# Altium schematic symbol library WPME-FISM.SchLib: 31 symbols
Pins are listed as number, name and electrical type; pins without a type are passive.

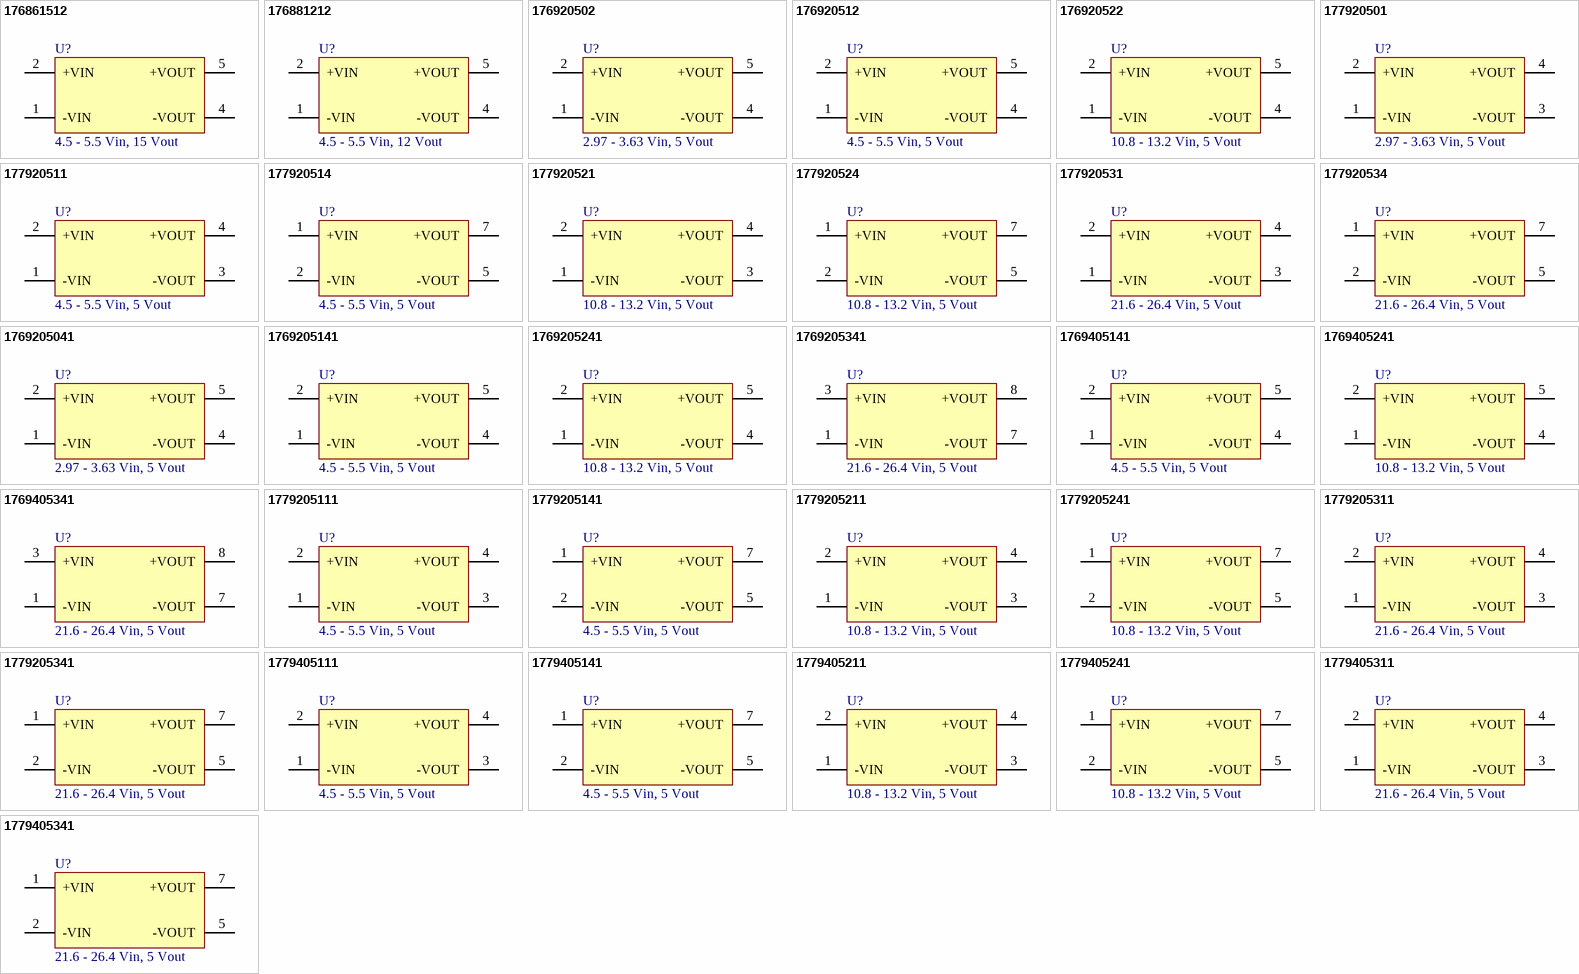
[diagram p0: symbols 176861512 to 1779405341]

## 176861512
designator U?, comment 4.5 - 5.5 Vin, 15 Vout
WPME-FISM Fixed Isolated Module, SMT-8, 4.5 - 5.5 Vin, 15 Vout; Manufacturer Part Number: 176861512; Manufacturer: Wurth Elektronik; Isolation Voltage: 2000 V; Output Power: 1 W; Output Voltage: 15 V; Short Circuit Protection: no; Type of Insulation: Functional; Category: Isolated Converter; Match Code: WPME-FISM; ComponentLink1Description: Website Link; ComponentLink1URL: https://www.we-online.com/redexpert/article/176861512?ad; ComponentLink2Description: Datasheet Link; ComponentLink2URL: https://www.we-online.com/redexpert/spec/176861512?ad; Mount: Surface Mount; Min Operating Temperature: -40 °C; Max Operating Temperature: 100 °C; Packaging: Tape and Reel; Case/Size Code: SMT-8; Length: 12.75 mm; Width: 10.7 mm; Height: 6.7 mm; Input Voltage: 4.5 - 5.5 V
footprint SMT-8_176861512
pins: 1 -VIN, 2 +VIN, 4 -VOUT, 5 +VOUT

## 176881212
designator U?, comment 4.5 - 5.5 Vin, 12 Vout
WPME-FISM Fixed Isolated Module, SMT-8, 4.5 - 5.5 Vin, 12 Vout; Manufacturer Part Number: 176881212; Manufacturer: Wurth Elektronik; Isolation Voltage: 2000 V; Output Power: 1 W; Output Voltage: 12 V; Short Circuit Protection: no; Type of Insulation: Functional; Category: Isolated Converter; Match Code: WPME-FISM; ComponentLink1Description: Website Link; ComponentLink1URL: https://www.we-online.com/redexpert/article/176881212?ad; ComponentLink2Description: Datasheet Link; ComponentLink2URL: https://www.we-online.com/redexpert/spec/176881212?ad; Mount: Surface Mount; Min Operating Temperature: -40 °C; Max Operating Temperature: 100 °C; Packaging: Tape and Reel; Case/Size Code: SMT-8; Length: 12.75 mm; Width: 10.7 mm; Height: 6.7 mm; Input Voltage: 4.5 - 5.5 V
footprint SMT-8_176881212
pins: 1 -VIN, 2 +VIN, 4 -VOUT, 5 +VOUT

## 176920502
designator U?, comment 2.97 - 3.63 Vin, 5 Vout
WPME-FISM Fixed Isolated Module, SMT-8, 2.97 - 3.63 Vin, 5 Vout; Manufacturer Part Number: 176920502; Manufacturer: Wurth Elektronik; Isolation Voltage: 2000 V; Output Power: 1 W; Output Voltage: 5 V; Short Circuit Protection: no; Type of Insulation: Functional; Category: Isolated Converter; Match Code: WPME-FISM; ComponentLink1Description: Website Link; ComponentLink1URL: https://www.we-online.com/redexpert/article/176920502?ad; ComponentLink2Description: Datasheet Link; ComponentLink2URL: https://www.we-online.com/redexpert/spec/176920502?ad; Mount: Surface Mount; Min Operating Temperature: -40 °C; Max Operating Temperature: 100 °C; Packaging: Tape and Reel; Case/Size Code: SMT-8; Length: 12.75 mm; Width: 10.7 mm; Height: 6.7 mm; Input Voltage: 2.97 - 3.63 V
footprint SMT-8_176920502
pins: 1 -VIN, 2 +VIN, 4 -VOUT, 5 +VOUT

## 176920512
designator U?, comment 4.5 - 5.5 Vin, 5 Vout
WPME-FISM Fixed Isolated Module, SMT-8, 4.5 - 5.5 Vin, 5 Vout; Manufacturer Part Number: 176920512; Manufacturer: Wurth Elektronik; Isolation Voltage: 2000 V; Output Power: 1 W; Output Voltage: 5 V; Short Circuit Protection: no; Type of Insulation: Functional; Category: Isolated Converter; Match Code: WPME-FISM; ComponentLink1Description: Website Link; ComponentLink1URL: https://www.we-online.com/redexpert/article/176920512?ad; ComponentLink2Description: Datasheet Link; ComponentLink2URL: https://www.we-online.com/redexpert/spec/176920512?ad; Mount: Surface Mount; Min Operating Temperature: -40 °C; Max Operating Temperature: 100 °C; Packaging: Tape and Reel; Case/Size Code: SMT-8; Length: 12.75 mm; Width: 10.7 mm; Height: 6.7 mm; Input Voltage: 4.5 - 5.5 V
footprint SMT-8_176920512
pins: 1 -VIN, 2 +VIN, 4 -VOUT, 5 +VOUT

## 176920522
designator U?, comment 10.8 - 13.2 Vin, 5 Vout
WPME-FISM Fixed Isolated Module, SMT-8, 10.8 - 13.2 Vin, 5 Vout; Manufacturer Part Number: 176920522; Manufacturer: Wurth Elektronik; Isolation Voltage: 2000 V; Output Power: 1 W; Output Voltage: 5 V; Short Circuit Protection: no; Type of Insulation: Functional; Category: Isolated Converter; Match Code: WPME-FISM; ComponentLink1Description: Website Link; ComponentLink1URL: https://www.we-online.com/redexpert/article/176920522?ad; ComponentLink2Description: Datasheet Link; ComponentLink2URL: https://www.we-online.com/redexpert/spec/176920522?ad; Mount: Surface Mount; Min Operating Temperature: -40 °C; Max Operating Temperature: 100 °C; Packaging: Tape and Reel; Case/Size Code: SMT-8; Length: 12.75 mm; Width: 10.7 mm; Height: 6.7 mm; Input Voltage: 10.8 - 13.2 V
footprint SMT-8_176920522
pins: 1 -VIN, 2 +VIN, 4 -VOUT, 5 +VOUT

## 177920501
designator U?, comment 2.97 - 3.63 Vin, 5 Vout
WPME-FISM Fixed Isolated Module, SIP-4, 2.97 - 3.63 Vin, 5 Vout; Manufacturer Part Number: 177920501; Manufacturer: Wurth Elektronik; Isolation Voltage: 1000 V; Output Power: 1 W; Output Voltage: 5 V; Short Circuit Protection: no; Type of Insulation: Functional; Category: Isolated Converter; Match Code: WPME-FISM; ComponentLink1Description: Website Link; ComponentLink1URL: https://www.we-online.com/redexpert/article/177920501?ad; ComponentLink2Description: Datasheet Link; ComponentLink2URL: https://www.we-online.com/redexpert/spec/177920501?ad; Mount: Through Hole; Min Operating Temperature: -40 °C; Max Operating Temperature: 85 °C; Packaging: Tube; Case/Size Code: SIP-4; Length: 11.5 mm; Width: 6 mm; Height: 10 mm; Input Voltage: 2.97 - 3.63 V
footprint SIP-4_177920501
pins: 1 -VIN, 2 +VIN, 3 -VOUT, 4 +VOUT

## 177920511
designator U?, comment 4.5 - 5.5 Vin, 5 Vout
WPME-FISM Fixed Isolated Module, SIP-4, 4.5 - 5.5 Vin, 5 Vout; Manufacturer Part Number: 177920511; Manufacturer: Wurth Elektronik; Isolation Voltage: 1000 V; Output Power: 1 W; Output Voltage: 5 V; Short Circuit Protection: no; Type of Insulation: Functional; Category: Isolated Converter; Match Code: WPME-FISM; ComponentLink1Description: Website Link; ComponentLink1URL: https://www.we-online.com/redexpert/article/177920511?ad; ComponentLink2Description: Datasheet Link; ComponentLink2URL: https://www.we-online.com/redexpert/spec/177920511?ad; Mount: Through Hole; Min Operating Temperature: -40 °C; Max Operating Temperature: 85 °C; Packaging: Tube; Case/Size Code: SIP-4; Length: 11.5 mm; Width: 6 mm; Height: 10 mm; Input Voltage: 4.5 - 5.5 V
footprint SIP-4_177920511
pins: 1 -VIN, 2 +VIN, 3 -VOUT, 4 +VOUT

## 177920514
designator U?, comment 4.5 - 5.5 Vin, 5 Vout
WPME-FISM Fixed Isolated Module, SIP-7, 4.5 - 5.5 Vin, 5 Vout; Manufacturer Part Number: 177920514; Manufacturer: Wurth Elektronik; Isolation Voltage: 4000 V; Output Power: 1 W; Output Voltage: 5 V; Short Circuit Protection: no; Type of Insulation: Functional; Category: Isolated Converter; Match Code: WPME-FISM; ComponentLink1Description: Website Link; ComponentLink1URL: https://www.we-online.com/redexpert/article/177920514?ad; ComponentLink2Description: Datasheet Link; ComponentLink2URL: https://www.we-online.com/redexpert/spec/177920514?ad; Mount: Through Hole; Min Operating Temperature: -40 °C; Max Operating Temperature: 85 °C; Packaging: Tube; Case/Size Code: SIP-7; Length: 19.6 mm; Width: 7.05 mm; Height: 10.2 mm; Input Voltage: 4.5 - 5.5 V
footprint SIP-7_177920514
pins: 1 +VIN, 2 -VIN, 5 -VOUT, 7 +VOUT

## 177920521
designator U?, comment 10.8 - 13.2 Vin, 5 Vout
WPME-FISM Fixed Isolated Module, SIP-4, 10.8 - 13.2 Vin, 5 Vout; Manufacturer Part Number: 177920521; Manufacturer: Wurth Elektronik; Isolation Voltage: 1000 V; Output Power: 1 W; Output Voltage: 5 V; Short Circuit Protection: no; Type of Insulation: Functional; Category: Isolated Converter; Match Code: WPME-FISM; ComponentLink1Description: Website Link; ComponentLink1URL: https://www.we-online.com/redexpert/article/177920521?ad; ComponentLink2Description: Datasheet Link; ComponentLink2URL: https://www.we-online.com/redexpert/spec/177920521?ad; Mount: Through Hole; Min Operating Temperature: -40 °C; Max Operating Temperature: 85 °C; Packaging: Tube; Case/Size Code: SIP-4; Length: 11.5 mm; Width: 6 mm; Height: 10 mm; Input Voltage: 10.8 - 13.2 V
footprint SIP-4_177920521
pins: 1 -VIN, 2 +VIN, 3 -VOUT, 4 +VOUT

## 177920524
designator U?, comment 10.8 - 13.2 Vin, 5 Vout
WPME-FISM Fixed Isolated Module, SIP-7, 10.8 - 13.2 Vin, 5 Vout; Manufacturer Part Number: 177920524; Manufacturer: Wurth Elektronik; Isolation Voltage: 4000 V; Output Power: 1 W; Output Voltage: 5 V; Short Circuit Protection: no; Type of Insulation: Functional; Category: Isolated Converter; Match Code: WPME-FISM; ComponentLink1Description: Website Link; ComponentLink1URL: https://www.we-online.com/redexpert/article/177920524?ad; ComponentLink2Description: Datasheet Link; ComponentLink2URL: https://www.we-online.com/redexpert/spec/177920524?ad; Mount: Through Hole; Min Operating Temperature: -40 °C; Max Operating Temperature: 85 °C; Packaging: Tube; Case/Size Code: SIP-7; Length: 19.6 mm; Width: 7.05 mm; Height: 10.2 mm; Input Voltage: 10.8 - 13.2 V
footprint SIP-7_177920524
pins: 1 +VIN, 2 -VIN, 5 -VOUT, 7 +VOUT

## 177920531
designator U?, comment 21.6 - 26.4 Vin, 5 Vout
WPME-FISM Fixed Isolated Module, SIP-4, 21.6 - 26.4 Vin, 5 Vout; Manufacturer Part Number: 177920531; Manufacturer: Wurth Elektronik; Isolation Voltage: 1000 V; Output Power: 1 W; Output Voltage: 5 V; Short Circuit Protection: no; Type of Insulation: Functional; Category: Isolated Converter; Match Code: WPME-FISM; ComponentLink1Description: Website Link; ComponentLink1URL: https://www.we-online.com/redexpert/article/177920531?ad; ComponentLink2Description: Datasheet Link; ComponentLink2URL: https://www.we-online.com/redexpert/spec/177920531?ad; Mount: Through Hole; Min Operating Temperature: -40 °C; Max Operating Temperature: 85 °C; Packaging: Tube; Case/Size Code: SIP-4; Length: 11.5 mm; Width: 6 mm; Height: 10 mm; Input Voltage: 21.6 - 26.4 V
footprint SIP-4_177920531
pins: 1 -VIN, 2 +VIN, 3 -VOUT, 4 +VOUT

## 177920534
designator U?, comment 21.6 - 26.4 Vin, 5 Vout
WPME-FISM Fixed Isolated Module, SIP-7, 21.6 - 26.4 Vin, 5 Vout; Manufacturer Part Number: 177920534; Manufacturer: Wurth Elektronik; Isolation Voltage: 4000 V; Output Power: 1 W; Output Voltage: 5 V; Short Circuit Protection: no; Type of Insulation: Functional; Category: Isolated Converter; Match Code: WPME-FISM; ComponentLink1Description: Website Link; ComponentLink1URL: https://www.we-online.com/redexpert/article/177920534?ad; ComponentLink2Description: Datasheet Link; ComponentLink2URL: https://www.we-online.com/redexpert/spec/177920534?ad; Mount: Through Hole; Min Operating Temperature: -40 °C; Max Operating Temperature: 85 °C; Packaging: Tube; Case/Size Code: SIP-7; Length: 19.6 mm; Width: 7.05 mm; Height: 10.2 mm; Input Voltage: 21.6 - 26.4 V
footprint SIP-7_177920534
pins: 1 +VIN, 2 -VIN, 5 -VOUT, 7 +VOUT

## 1769205041
designator U?, comment 2.97 - 3.63 Vin, 5 Vout
WPME-FISM Fixed Isolated Module, SMT-8, 2.97 - 3.63 Vin, 5 Vout; Manufacturer Part Number: 1769205041; Manufacturer: Wurth Elektronik; Isolation Voltage: 4000 V; Output Power: 1 W; Output Voltage: 5 V; Short Circuit Protection: continuous; Type of Insulation: Functional; Category: Isolated Converter; Match Code: WPME-FISM; ComponentLink1Description: Website Link; ComponentLink1URL: https://www.we-online.com/redexpert/article/1769205041?ad; ComponentLink2Description: Datasheet Link; ComponentLink2URL: https://www.we-online.com/redexpert/spec/1769205041?ad; Mount: Surface Mount; Min Operating Temperature: -40 °C; Max Operating Temperature: 105 °C; Packaging: Tape and Reel; Case/Size Code: SMT-8; Length: 13.2 mm; Width: 11.4 mm; Height: 7.25 mm; Input Voltage: 2.97 - 3.63 V
footprint SMT-8_1769205041
pins: 1 -VIN, 2 +VIN, 4 -VOUT, 5 +VOUT

## 1769205141
designator U?, comment 4.5 - 5.5 Vin, 5 Vout
WPME-FISM Fixed Isolated Module, SMT-8, 4.5 - 5.5 Vin, 5 Vout; Manufacturer Part Number: 1769205141; Manufacturer: Wurth Elektronik; Isolation Voltage: 4000 V; Output Power: 1 W; Output Voltage: 5 V; Short Circuit Protection: continuous; Type of Insulation: Functional; Category: Isolated Converter; Match Code: WPME-FISM; ComponentLink1Description: Website Link; ComponentLink1URL: https://www.we-online.com/redexpert/article/1769205141?ad; ComponentLink2Description: Datasheet Link; ComponentLink2URL: https://www.we-online.com/redexpert/spec/1769205141?ad; Mount: Surface Mount; Min Operating Temperature: -40 °C; Max Operating Temperature: 105 °C; Packaging: Tape and Reel; Case/Size Code: SMT-8; Length: 13.2 mm; Width: 11.4 mm; Height: 7.25 mm; Input Voltage: 4.5 - 5.5 V
footprint SMT-8_1769205141
pins: 1 -VIN, 2 +VIN, 4 -VOUT, 5 +VOUT

## 1769205241
designator U?, comment 10.8 - 13.2 Vin, 5 Vout
WPME-FISM Fixed Isolated Module, SMT-8, 10.8 - 13.2 Vin, 5 Vout; Manufacturer Part Number: 1769205241; Manufacturer: Wurth Elektronik; Isolation Voltage: 3000 V; Output Power: 1 W; Output Voltage: 5 V; Short Circuit Protection: continuous; Type of Insulation: Functional; Category: Isolated Converter; Match Code: WPME-FISM; ComponentLink1Description: Website Link; ComponentLink1URL: https://www.we-online.com/redexpert/article/1769205241?ad; ComponentLink2Description: Datasheet Link; ComponentLink2URL: https://www.we-online.com/redexpert/spec/1769205241?ad; Mount: Surface Mount; Min Operating Temperature: -40 °C; Max Operating Temperature: 105 °C; Packaging: Tape and Reel; Case/Size Code: SMT-8; Length: 13.2 mm; Width: 11.4 mm; Height: 7.25 mm; Input Voltage: 10.8 - 13.2 V
footprint SMT-8_1769205241
pins: 1 -VIN, 2 +VIN, 4 -VOUT, 5 +VOUT

## 1769205341
designator U?, comment 21.6 - 26.4 Vin, 5 Vout
WPME-FISM Fixed Isolated Module, SMT-8, 21.6 - 26.4 Vin, 5 Vout; Manufacturer Part Number: 1769205341; Manufacturer: Wurth Elektronik; Isolation Voltage: 3000 V; Output Power: 1 W; Output Voltage: 5 V; Short Circuit Protection: continuous; Type of Insulation: Functional; Category: Isolated Converter; Match Code: WPME-FISM; ComponentLink1Description: Website Link; ComponentLink1URL: https://www.we-online.com/redexpert/article/1769205341?ad; ComponentLink2Description: Datasheet Link; ComponentLink2URL: https://www.we-online.com/redexpert/spec/1769205341?ad; Mount: Surface Mount; Min Operating Temperature: -40 °C; Max Operating Temperature: 105 °C; Packaging: Tape and Reel; Case/Size Code: SMT-8; Length: 13.2 mm; Width: 11.4 mm; Height: 7.25 mm; Input Voltage: 21.6 - 26.4 V
footprint SMT-8_1769205341
pins: 1 -VIN, 3 +VIN, 7 -VOUT, 8 +VOUT

## 1769405141
designator U?, comment 4.5 - 5.5 Vin, 5 Vout
WPME-FISM Fixed Isolated Module, SMT-8, 4.5 - 5.5 Vin, 5 Vout; Manufacturer Part Number: 1769405141; Manufacturer: Wurth Elektronik; Isolation Voltage: 4000 V; Output Power: 2 W; Output Voltage: 5 V; Short Circuit Protection: continuous; Type of Insulation: Functional; Category: Isolated Converter; Match Code: WPME-FISM; ComponentLink1Description: Website Link; ComponentLink1URL: https://www.we-online.com/redexpert/article/1769405141?ad; ComponentLink2Description: Datasheet Link; ComponentLink2URL: https://www.we-online.com/redexpert/spec/1769405141?ad; Mount: Surface Mount; Min Operating Temperature: -40 °C; Max Operating Temperature: 105 °C; Packaging: Tape and Reel; Case/Size Code: SMT-8; Length: 13.2 mm; Width: 11.4 mm; Height: 7.25 mm; Input Voltage: 4.5 - 5.5 V
footprint SMT-8_1769405141
pins: 1 -VIN, 2 +VIN, 4 -VOUT, 5 +VOUT

## 1769405241
designator U?, comment 10.8 - 13.2 Vin, 5 Vout
WPME-FISM Fixed Isolated Module, SMT-8, 10.8 - 13.2 Vin, 5 Vout; Manufacturer Part Number: 1769405241; Manufacturer: Wurth Elektronik; Isolation Voltage: 3000 V; Output Power: 2 W; Output Voltage: 5 V; Short Circuit Protection: continuous; Type of Insulation: Functional; Category: Isolated Converter; Match Code: WPME-FISM; ComponentLink1Description: Website Link; ComponentLink1URL: https://www.we-online.com/redexpert/article/1769405241?ad; ComponentLink2Description: Datasheet Link; ComponentLink2URL: https://www.we-online.com/redexpert/spec/1769405241?ad; Mount: Surface Mount; Min Operating Temperature: -40 °C; Max Operating Temperature: 105 °C; Packaging: Tape and Reel; Case/Size Code: SMT-8; Length: 13.2 mm; Width: 11.4 mm; Height: 7.25 mm; Input Voltage: 10.8 - 13.2 V
footprint SMT-8_1769405241
pins: 1 -VIN, 2 +VIN, 4 -VOUT, 5 +VOUT

## 1769405341
designator U?, comment 21.6 - 26.4 Vin, 5 Vout
WPME-FISM Fixed Isolated Module, SMT-8, 21.6 - 26.4 Vin, 5 Vout; Manufacturer Part Number: 1769405341; Manufacturer: Wurth Elektronik; Isolation Voltage: 3000 V; Output Power: 2 W; Output Voltage: 5 V; Short Circuit Protection: continuous; Type of Insulation: Functional; Category: Isolated Converter; Match Code: WPME-FISM; ComponentLink1Description: Website Link; ComponentLink1URL: https://www.we-online.com/redexpert/article/1769405341?ad; ComponentLink2Description: Datasheet Link; ComponentLink2URL: https://www.we-online.com/redexpert/spec/1769405341?ad; Mount: Surface Mount; Min Operating Temperature: -40 °C; Max Operating Temperature: 105 °C; Packaging: Tape and Reel; Case/Size Code: SMT-8; Length: 13.2 mm; Width: 11.4 mm; Height: 7.25 mm; Input Voltage: 21.6 - 26.4 V
footprint SMT-8_1769405341
pins: 1 -VIN, 3 +VIN, 7 -VOUT, 8 +VOUT

## 1779205111
designator U?, comment 4.5 - 5.5 Vin, 5 Vout
WPME-FISM Fixed Isolated Module, SIP-4, 4.5 - 5.5 Vin, 5 Vout; Manufacturer Part Number: 1779205111; Manufacturer: Wurth Elektronik; Isolation Voltage: 3000 V; Output Power: 1 W; Output Voltage: 5 V; Short Circuit Protection: continuous; Type of Insulation: Functional; Category: Isolated Converter; Match Code: WPME-FISM; ComponentLink1Description: Website Link; ComponentLink1URL: https://www.we-online.com/redexpert/article/1779205111?ad; ComponentLink2Description: Datasheet Link; ComponentLink2URL: https://www.we-online.com/redexpert/spec/1779205111?ad; Mount: Through Hole; Min Operating Temperature: -40 °C; Max Operating Temperature: 105 °C; Packaging: Tube; Case/Size Code: SIP-4; Length: 11.5 mm; Width: 6 mm; Height: 10 mm; Input Voltage: 4.5 - 5.5 V
footprint SIP-4_1779205111
pins: 1 -VIN, 2 +VIN, 3 -VOUT, 4 +VOUT

## 1779205141
designator U?, comment 4.5 - 5.5 Vin, 5 Vout
WPME-FISM Fixed Isolated Module, SIP-7, 4.5 - 5.5 Vin, 5 Vout; Manufacturer Part Number: 1779205141; Manufacturer: Wurth Elektronik; Isolation Voltage: 3000 V; Output Power: 1 W; Output Voltage: 5 V; Short Circuit Protection: continuous; Type of Insulation: Functional; Category: Isolated Converter; Match Code: WPME-FISM; ComponentLink1Description: Website Link; ComponentLink1URL: https://www.we-online.com/redexpert/article/1779205141?ad; ComponentLink2Description: Datasheet Link; ComponentLink2URL: https://www.we-online.com/redexpert/spec/1779205141?ad; Mount: Through Hole; Min Operating Temperature: -40 °C; Max Operating Temperature: 105 °C; Packaging: Tube; Case/Size Code: SIP-7; Length: 19.65 mm; Width: 6 mm; Height: 10.16 mm; Input Voltage: 4.5 - 5.5 V
footprint SIP-7_1779205141
pins: 1 +VIN, 2 -VIN, 5 -VOUT, 7 +VOUT

## 1779205211
designator U?, comment 10.8 - 13.2 Vin, 5 Vout
WPME-FISM Fixed Isolated Module, SIP-4, 10.8 - 13.2 Vin, 5 Vout; Manufacturer Part Number: 1779205211; Manufacturer: Wurth Elektronik; Isolation Voltage: 1500 V; Output Power: 1 W; Output Voltage: 5 V; Short Circuit Protection: continuous; Type of Insulation: Functional; Category: Isolated Converter; Match Code: WPME-FISM; ComponentLink1Description: Website Link; ComponentLink1URL: https://www.we-online.com/redexpert/article/1779205211?ad; ComponentLink2Description: Datasheet Link; ComponentLink2URL: https://www.we-online.com/redexpert/spec/1779205211?ad; Mount: Through Hole; Min Operating Temperature: -40 °C; Max Operating Temperature: 105 °C; Packaging: Tube; Case/Size Code: SIP-4; Length: 11.5 mm; Width: 6 mm; Height: 10 mm; Input Voltage: 10.8 - 13.2 V
footprint SIP-4_1779205211
pins: 1 -VIN, 2 +VIN, 3 -VOUT, 4 +VOUT

## 1779205241
designator U?, comment 10.8 - 13.2 Vin, 5 Vout
WPME-FISM Fixed Isolated Module, SIP-7, 10.8 - 13.2 Vin, 5 Vout; Manufacturer Part Number: 1779205241; Manufacturer: Wurth Elektronik; Isolation Voltage: 4000 V; Output Power: 1 W; Output Voltage: 5 V; Short Circuit Protection: continuous; Type of Insulation: Functional; Category: Isolated Converter; Match Code: WPME-FISM; ComponentLink1Description: Website Link; ComponentLink1URL: https://www.we-online.com/redexpert/article/1779205241?ad; ComponentLink2Description: Datasheet Link; ComponentLink2URL: https://www.we-online.com/redexpert/spec/1779205241?ad; Mount: Through Hole; Min Operating Temperature: -40 °C; Max Operating Temperature: 105 °C; Packaging: Tube; Case/Size Code: SIP-7; Length: 19.65 mm; Width: 6 mm; Height: 10.16 mm; Input Voltage: 10.8 - 13.2 V
footprint SIP-7_1779205241
pins: 1 +VIN, 2 -VIN, 5 -VOUT, 7 +VOUT

## 1779205311
designator U?, comment 21.6 - 26.4 Vin, 5 Vout
WPME-FISM Fixed Isolated Module, SIP-4, 21.6 - 26.4 Vin, 5 Vout; Manufacturer Part Number: 1779205311; Manufacturer: Wurth Elektronik; Isolation Voltage: 3000 V; Output Power: 1 W; Output Voltage: 5 V; Short Circuit Protection: continuous; Type of Insulation: Functional; Category: Isolated Converter; Match Code: WPME-FISM; ComponentLink1Description: Website Link; ComponentLink1URL: https://www.we-online.com/redexpert/article/1779205311?ad; ComponentLink2Description: Datasheet Link; ComponentLink2URL: https://www.we-online.com/redexpert/spec/1779205311?ad; Mount: Through Hole; Min Operating Temperature: -40 °C; Max Operating Temperature: 105 °C; Packaging: Tube; Case/Size Code: SIP-4; Length: 11.6 mm; Width: 6 mm; Height: 10.16 mm; Input Voltage: 21.6 - 26.4 V
footprint SIP-4_1779205311
pins: 1 -VIN, 2 +VIN, 3 -VOUT, 4 +VOUT

## 1779205341
designator U?, comment 21.6 - 26.4 Vin, 5 Vout
WPME-FISM Fixed Isolated Module, SIP-7, 21.6 - 26.4 Vin, 5 Vout; Manufacturer Part Number: 1779205341; Manufacturer: Wurth Elektronik; Isolation Voltage: 3000 V; Output Power: 1 W; Output Voltage: 5 V; Short Circuit Protection: continuous; Type of Insulation: Functional; Category: Isolated Converter; Match Code: WPME-FISM; ComponentLink1Description: Website Link; ComponentLink1URL: https://www.we-online.com/redexpert/article/1779205341?ad; ComponentLink2Description: Datasheet Link; ComponentLink2URL: https://www.we-online.com/redexpert/spec/1779205341?ad; Mount: Through Hole; Min Operating Temperature: -40 °C; Max Operating Temperature: 105 °C; Packaging: Tube; Case/Size Code: SIP-7; Length: 19.65 mm; Width: 6 mm; Height: 10.16 mm; Input Voltage: 21.6 - 26.4 V
footprint SIP-7_1779205341
pins: 1 +VIN, 2 -VIN, 5 -VOUT, 7 +VOUT

## 1779405111
designator U?, comment 4.5 - 5.5 Vin, 5 Vout
WPME-FISM Fixed Isolated Module, SIP-4, 4.5 - 5.5 Vin, 5 Vout; Manufacturer Part Number: 1779405111; Manufacturer: Wurth Elektronik; Isolation Voltage: 1500 V; Output Power: 2 W; Output Voltage: 5 V; Short Circuit Protection: continuous; Type of Insulation: Functional; Category: Isolated Converter; Match Code: WPME-FISM; ComponentLink1Description: Website Link; ComponentLink1URL: https://www.we-online.com/redexpert/article/1779405111?ad; ComponentLink2Description: Datasheet Link; ComponentLink2URL: https://www.we-online.com/redexpert/spec/1779405111?ad; Mount: Through Hole; Min Operating Temperature: -40 °C; Max Operating Temperature: 85 °C; Packaging: Tube; Case/Size Code: SIP-4; Length: 11.6 mm; Width: 7.55 mm; Height: 10.16 mm; Input Voltage: 4.5 - 5.5 V
footprint SIP-4_1779405111
pins: 1 -VIN, 2 +VIN, 3 -VOUT, 4 +VOUT

## 1779405141
designator U?, comment 4.5 - 5.5 Vin, 5 Vout
WPME-FISM Fixed Isolated Module, SIP-7, 4.5 - 5.5 Vin, 5 Vout; Manufacturer Part Number: 1779405141; Manufacturer: Wurth Elektronik; Isolation Voltage: 3000 V; Output Power: 2 W; Output Voltage: 5 V; Short Circuit Protection: continuous; Type of Insulation: Functional; Category: Isolated Converter; Match Code: WPME-FISM; ComponentLink1Description: Website Link; ComponentLink1URL: https://www.we-online.com/redexpert/article/1779405141?ad; ComponentLink2Description: Datasheet Link; ComponentLink2URL: https://www.we-online.com/redexpert/spec/1779405141?ad; Mount: Through Hole; Min Operating Temperature: -40 °C; Max Operating Temperature: 105 °C; Packaging: Tube; Case/Size Code: SIP-7; Length: 19.65 mm; Width: 7.05 mm; Height: 10.16 mm; Input Voltage: 4.5 - 5.5 V
footprint SIP-7_1779405141
pins: 1 +VIN, 2 -VIN, 5 -VOUT, 7 +VOUT

## 1779405211
designator U?, comment 10.8 - 13.2 Vin, 5 Vout
WPME-FISM Fixed Isolated Module, SIP-4, 10.8 - 13.2 Vin, 5 Vout; Manufacturer Part Number: 1779405211; Manufacturer: Wurth Elektronik; Isolation Voltage: 1500 V; Output Power: 2 W; Output Voltage: 5 V; Short Circuit Protection: continuous; Type of Insulation: Functional; Category: Isolated Converter; Match Code: WPME-FISM; ComponentLink1Description: Website Link; ComponentLink1URL: https://www.we-online.com/redexpert/article/1779405211?ad; ComponentLink2Description: Datasheet Link; ComponentLink2URL: https://www.we-online.com/redexpert/spec/1779405211?ad; Mount: Through Hole; Min Operating Temperature: -40 °C; Max Operating Temperature: 85 °C; Packaging: Tube; Case/Size Code: SIP-4; Length: 11.6 mm; Width: 7.55 mm; Height: 10.16 mm; Input Voltage: 10.8 - 13.2 V
footprint SIP-4_1779405211
pins: 1 -VIN, 2 +VIN, 3 -VOUT, 4 +VOUT

## 1779405241
designator U?, comment 10.8 - 13.2 Vin, 5 Vout
WPME-FISM Fixed Isolated Module, SIP-7, 10.8 - 13.2 Vin, 5 Vout; Manufacturer Part Number: 1779405241; Manufacturer: Wurth Elektronik; Isolation Voltage: 3000 V; Output Power: 2 W; Output Voltage: 5 V; Short Circuit Protection: continuous; Type of Insulation: Functional; Category: Isolated Converter; Match Code: WPME-FISM; ComponentLink1Description: Website Link; ComponentLink1URL: https://www.we-online.com/redexpert/article/1779405241?ad; ComponentLink2Description: Datasheet Link; ComponentLink2URL: https://www.we-online.com/redexpert/spec/1779405241?ad; Mount: Through Hole; Min Operating Temperature: -40 °C; Max Operating Temperature: 105 °C; Packaging: Tube; Case/Size Code: SIP-7; Length: 19.65 mm; Width: 7.05 mm; Height: 10.16 mm; Input Voltage: 10.8 - 13.2 V
footprint SIP-7_1779405241
pins: 1 +VIN, 2 -VIN, 5 -VOUT, 7 +VOUT

## 1779405311
designator U?, comment 21.6 - 26.4 Vin, 5 Vout
WPME-FISM Fixed Isolated Module, SIP-4, 21.6 - 26.4 Vin, 5 Vout; Manufacturer Part Number: 1779405311; Manufacturer: Wurth Elektronik; Isolation Voltage: 1500 V; Output Power: 2 W; Output Voltage: 5 V; Short Circuit Protection: continuous; Type of Insulation: Functional; Category: Isolated Converter; Match Code: WPME-FISM; ComponentLink1Description: Website Link; ComponentLink1URL: https://www.we-online.com/redexpert/article/1779405311?ad; ComponentLink2Description: Datasheet Link; ComponentLink2URL: https://www.we-online.com/redexpert/spec/1779405311?ad; Mount: Through Hole; Min Operating Temperature: -40 °C; Max Operating Temperature: 85 °C; Packaging: Tube; Case/Size Code: SIP-4; Length: 11.6 mm; Width: 7.55 mm; Height: 10.16 mm; Input Voltage: 21.6 - 26.4 V
footprint SIP-4_1779405311
pins: 1 -VIN, 2 +VIN, 3 -VOUT, 4 +VOUT

## 1779405341
designator U?, comment 21.6 - 26.4 Vin, 5 Vout
WPME-FISM Fixed Isolated Module, SIP-7, 21.6 - 26.4 Vin, 5 Vout; Manufacturer Part Number: 1779405341; Manufacturer: Wurth Elektronik; Isolation Voltage: 3000 V; Output Power: 2 W; Output Voltage: 5 V; Short Circuit Protection: continuous; Type of Insulation: Functional; Category: Isolated Converter; Match Code: WPME-FISM; ComponentLink1Description: Website Link; ComponentLink1URL: https://www.we-online.com/redexpert/article/1779405341?ad; ComponentLink2Description: Datasheet Link; ComponentLink2URL: https://www.we-online.com/redexpert/spec/1779405341?ad; Mount: Through Hole; Min Operating Temperature: -40 °C; Max Operating Temperature: 105 °C; Packaging: Tube; Case/Size Code: SIP-7; Length: 19.65 mm; Width: 7.05 mm; Height: 10.16 mm; Input Voltage: 21.6 - 26.4 V
footprint SIP-7_1779405341
pins: 1 +VIN, 2 -VIN, 5 -VOUT, 7 +VOUT